# Altium footprint library 2520.PCBLIB: 1 footprints
Each footprint in its own frame and in the unit in brackets; x right, y up, seen from the top. Pads: shape width x height; smd on the part's side, far side on the other; paste and mask are expansions set on the pad; w line width, h text height; cw(c..) or ccw(c..) is an arc to the next point about the centre after c.
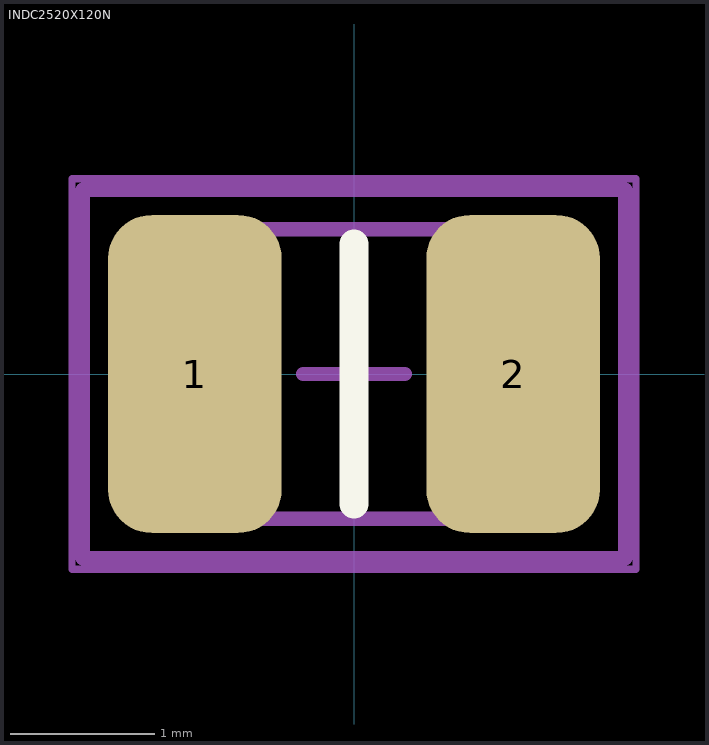
[diagram p0: the footprint, top view; thin cyan lines are the x and y axes]

## INDC2520X120N [mm]
pads (2):
  rrect50% 1.2x2.2 smd: 1(-1.1,0) 2(1.1,0)
Top Overlay:
  lines w0.2: 0,-0.9 0,0.9
Top Assembly:
  lines w0.1: -1.25,-1 1.25,-1 1.25,1 -1.25,1 -1.25,-1
Top Courtyard:
  lines w0.1: -1.875,-1.275 -1.875,1.275 1.875,1.275 1.875,-1.275 -1.875,-1.275
Top Designator:
  text ".Designator" at -2.074,1.384 h1
Top Component Center:
  lines w0.1: -0.35,0 0.35,0 ; 0,-0.35 0,0.35
Mechanical 20:
  lines w0.05: -1.95,-1.35 -1.95,1.35 1.95,1.35 1.95,-1.35 -1.95,-1.35
3D body "MAMK2520T1R0M.stp": height 1.2, standoff 0, extent -1.257,-0.992 1.243,1.008